# Altium footprint library TT_P260T.PcbLib: 1 footprints
Each footprint in its own frame and in the unit in brackets; x right, y up, seen from the top. Pads: shape width x height; smd on the part's side, far side on the other; paste and mask are expansions set on the pad; w line width, h text height; cw(c..) or ccw(c..) is an arc to the next point about the centre after c.
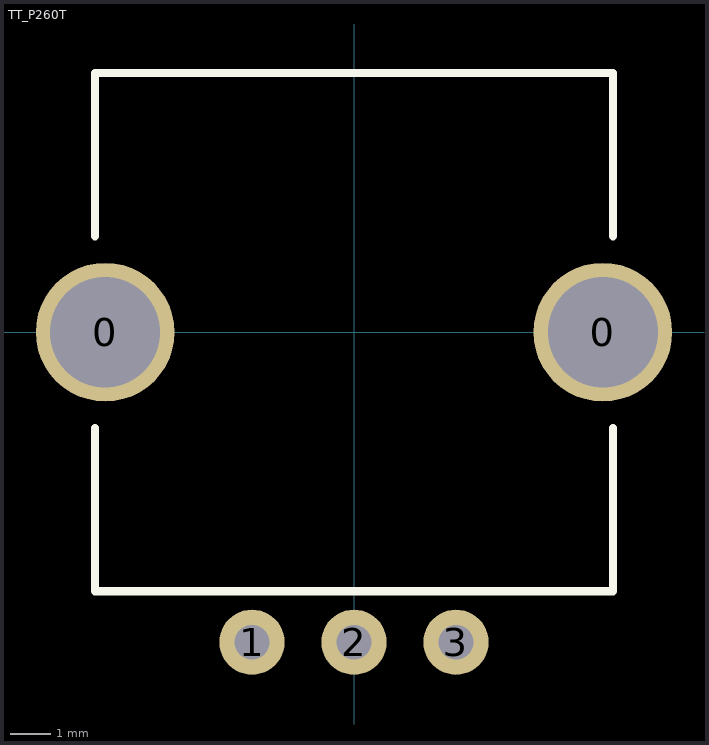
[diagram p0: the footprint, top view; thin cyan lines are the x and y axes]

## TT_P260T [mm] "TT Electronics Rotary Potentiometer"
pads (5):
  round 3.4 hole 2.7: 0(-6.1,0) 0(6.1,0)
  round 1.6 hole 0.85: 1(-2.5,-7.6) 2(0,-7.6) 3(2.5,-7.6)
Top Overlay:
  lines w0.2: -6.35,-2.35 -6.35,-6.35 6.35,-6.35 6.35,-2.35 ; -6.35,2.35 -6.35,6.35 6.35,6.35 6.35,2.35
3D body: height 12.7, standoff 0, extent -6.35,-6.35 6.35,6.35